# EAGLE library part RFD22301 (library RF-Digital)
RFD22301 RFduino SMT Module RFD22301 Datasheet: http://www.rfdigital.com/wp-content/uploads/2014/03/RFD22301.Data_.Sheet_.11.24.13_11.38PM.pdf
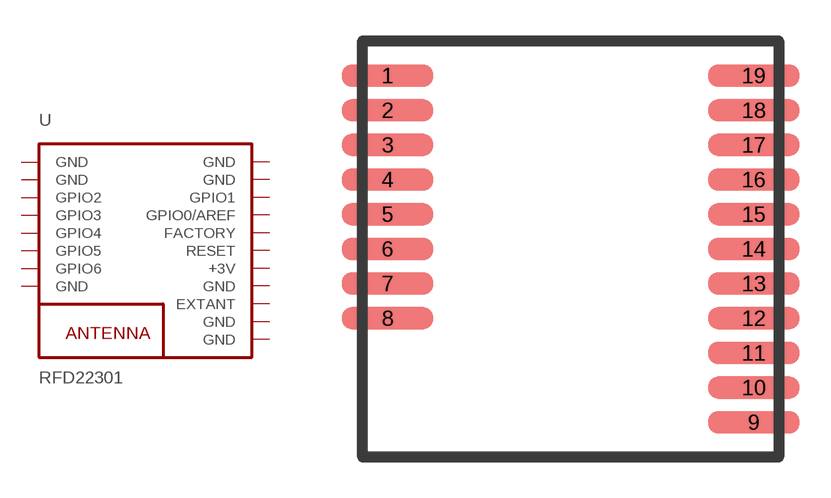
[diagram p0: symbol with the pads of RFD22301; footprint RFD22301]

Designator prefix U

## RFD22301  [RFD22301]
1  GND  pwr
2  GND  pwr
3  GPIO2
4  GPIO3
5  GPIO4
6  GPIO5
7  GPIO6
8  GND  pwr
9  GND  pwr
10  GND  pwr
11  EXTANT  nc
12  GND  pwr
13  +3V  pwr
14  RESET
15  FACTORY
16  GPIO0/AREF
17  GPIO1
18  GND  pwr
19  GND  pwr

## Footprint RFD22301 (pad centres in mm)
RFD22301 Layout
smd 3.353 x 0.813: 1 -6.706,7.62; 2 -6.706,6.35; 3 -6.706,5.08; 4 -6.706,3.81; 5 -6.706,2.54; 6 -6.706,1.27; 7 -6.706,0; 8 -6.706,-1.27; 9 6.706,-5.08; 10 6.706,-3.81; 11 6.706,-2.54; 12 6.706,-1.27; 13 6.706,0; 14 6.706,1.27; 15 6.706,2.54; 16 6.706,3.81; 17 6.706,5.08; 18 6.706,6.35; 19 6.706,7.62